# Altium schematic symbol library TLP260J.SchLib: 1 symbol
Pins are listed as number, name and electrical type; pins without a type are passive.

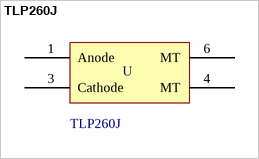
[diagram p0: symbol TLP260J]

## TLP260J
designator U  value TLP260J  (hidden comment: *)
Manufacturer: TOSHIBA; Voltage: 600V; Farnell Code: 1225868; Manufacturer Code: TLP260J; Unit Price: 2,33€; MOQ: 1
footprint MFSOP6
pins: 1 Anode, 3 Cathode, 4 MT, 6 MT